# Altium footprint library PCB - LEADED - SOP - DIODES INC SO-8EP.PcbLib: 1 footprints
Each footprint in its own frame and in the unit in brackets; x right, y up, seen from the top. Pads: shape width x height; smd on the part's side, far side on the other; paste and mask are expansions set on the pad; w line width, h text height; cw(c..) or ccw(c..) is an arc to the next point about the centre after c.
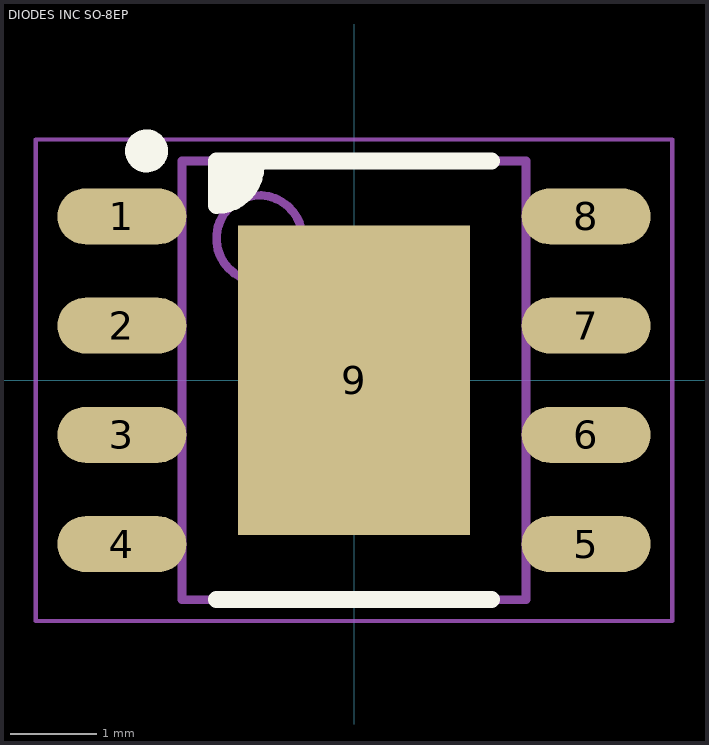
[diagram p0: the footprint, top view; thin cyan lines are the x and y axes]

## DIODES INC SO-8EP [mm] "SOIC, 8-Leads, Body 4.90x3.90mm, Pitch 1.27mm, Thermal Pad 3.60x2.70mm, IPC Medium Density"
height 1.6
pads (9):
  oval 1.5x0.65 smd: 1(-2.7,1.905) 2(-2.7,0.635) 3(-2.7,-0.635) 4(-2.7,-1.905) 5(2.7,-1.905) 6(2.7,-0.635) 7(2.7,0.635) 8(2.7,1.905)
  rect 2.7x3.6 smd: 9(0,0)
Top Overlay:
  circle w0.25: c-2.413,2.667 r0.125
  region: -1.6,2.55 -1.539,2.489 -1.143,2.489 -1.143,2.286 -1.397,2.032 -1.6,2.032
  lines w0.2: -1.6,-2.55 1.6,-2.55 ; -1.143,2.489 cw(c-1.6,2.489) -1.6,2.032 -1.6,2.55 1.6,2.55
Mechanical 13:
  circle w0.1: c-1.1,1.65 r0.5
  lines w0.1: -2,-2.55 2,-2.55 2,2.55 -2,2.55 -2,-2.55
Mechanical 15:
  lines w0.05: -3.7,-2.8 3.7,-2.8 3.7,2.8 -3.7,2.8 -3.7,-2.8
  lines w0.1: -0.5,0 0.5,0 ; 0,-0.5 0,0.5
3D body "DIODES INC SO-8EP.step": height 1.6, standoff 0, extent -3,-2.55 3,2.55